# EAGLE library part 62003211121 (library Wuerth_Elektronik_eiCan_Pin_&_Socked_Headers_v1.3)
WR-PHD 2.00mm Pin Header, 32 Pins
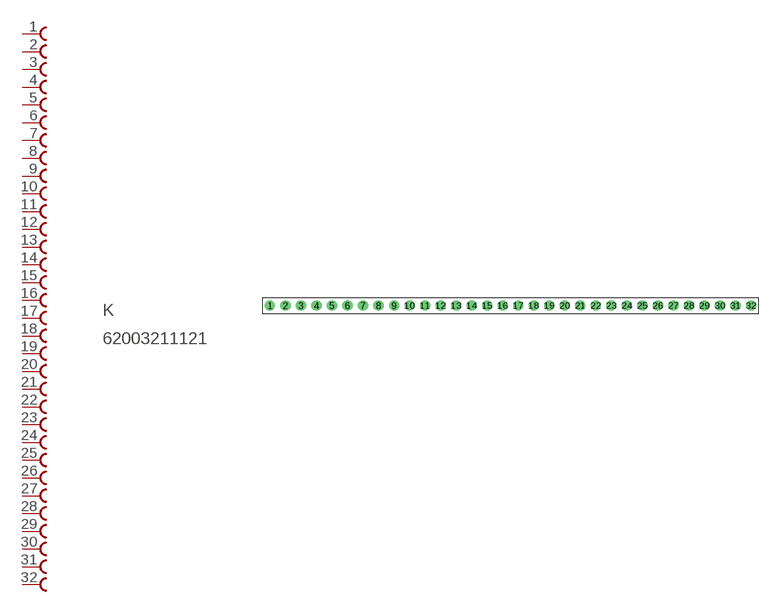
[diagram p269: symbol with the pads of 62003211121; footprint 62003211121]

Designator prefix K

## 62003211121  [62003211121]
1  1  pas
2  2  pas
3  3  pas
4  4  pas
5  5  pas
6  6  pas
7  7  pas
8  8  pas
9  9  pas
10  10  pas
11  11  pas
12  12  pas
13  13  pas
14  14  pas
15  15  pas
16  16  pas
17  17  pas
18  18  pas
19  19  pas
20  20  pas
21  21  pas
22  22  pas
23  23  pas
24  24  pas
25  25  pas
26  26  pas
27  27  pas
28  28  pas
29  29  pas
30  30  pas
31  31  pas
32  32  pas

## Footprint 62003211121 (pad centres in mm)
WR-PHD 2.00mm Pin Header, 32 Pins
drill 0.8 round: 1 -30,0; 2 -28,0; 3 -26,0; 4 -24,0; 5 -22,0; 6 -20,0; 7 -18,0; 8 -16,0; 9 -14,0; 10 -12,0; 11 -10,0; 12 -8,0; 13 -6,0; 14 -4,0; 15 -2,0; 16 0,0; 17 2,0; 18 4,0; 19 6,0; 20 8,0; 21 10,0; 22 12,0; 23 14,0; 24 16,0; 25 18,0; 26 20,0; 27 22,0; 28 24,0; 29 26,0; 30 28,0; 31 30,0; 32 32,0